# Altium footprint library HCPL-3120.PcbLib: 1 footprints
Each footprint in its own frame and in the unit in brackets; x right, y up, seen from the top. Pads: shape width x height; smd on the part's side, far side on the other; paste and mask are expansions set on the pad; w line width, h text height; cw(c..) or ccw(c..) is an arc to the next point about the centre after c.
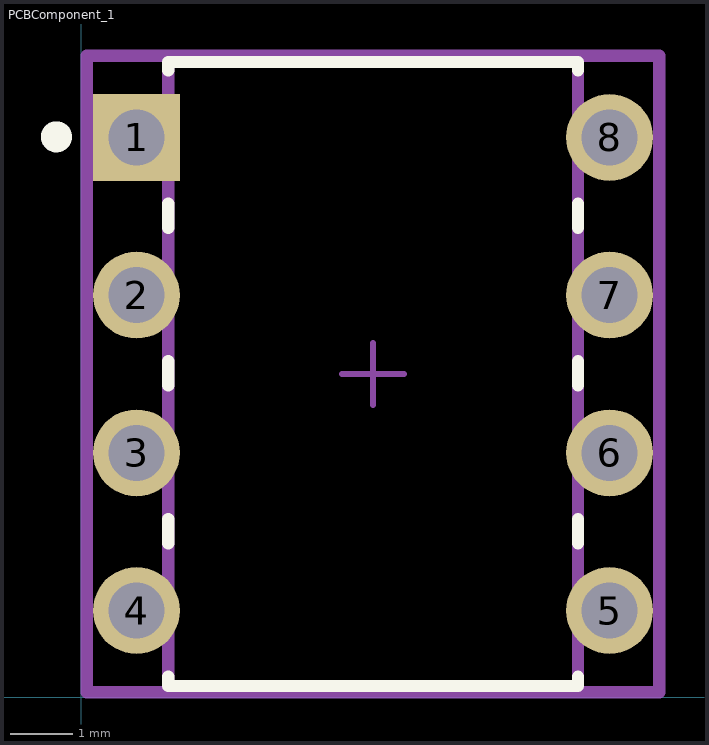
[diagram p0: the footprint, top view; thin cyan lines are the x and y axes]

## PCBComponent_1 [mm]
pads (8):
  rect 1.4x1.4 hole 0.9 paste-1000 mask+0: 1(0.889,9.017)
  round 1.4 hole 0.9 paste-1000 mask+0: 2(0.889,6.477) 3(0.889,3.937) 4(0.889,1.397) 5(8.509,1.397) 6(8.509,3.937) 7(8.509,6.477) 8(8.509,9.017)
Top Overlay:
  circle w0.25: c-0.401,9.027 r0.125
  lines w0.2: 1.399,0.332 1.399,0.182 7.999,0.182 7.999,0.332 ; 1.399,2.482 1.399,2.872 ; 1.399,5.022 1.399,5.412 ; 1.399,7.562 1.399,7.952 ; 1.399,10.102 1.399,10.232 7.999,10.232 7.999,10.102 ; 7.999,2.482 7.999,2.872 ; 7.999,5.022 7.999,5.412 ; 7.999,7.562 7.999,7.952
Top Assembly:
  lines w0.2: 0.089,0.082 0.089,10.332 9.309,10.332 9.309,0.082 0.089,0.082
  text ".Designator" at 4.699,5.206 h1
Top 3D Body:
  lines w0.2: 1.399,0.182 1.399,10.232 7.999,10.232 7.999,0.182 1.399,0.182
Top Courtyard:
  lines w0.2: 0.089,0.082 0.089,10.332 9.309,10.332 9.309,0.082 0.089,0.082
Top Component Center:
  lines w0.1: 4.199,5.207 5.199,5.207 ; 4.699,4.707 4.699,5.707
3D body "Trans_Broadcom_HCPL-3120-000E_eec.STEP": height 0.25, standoff 0, extent 0.089,0.082 9.309,10.332